# EAGLE library part 8L01 (library Eagle3D-Relays)
COTO Technologies - 8L Series Reed Relays
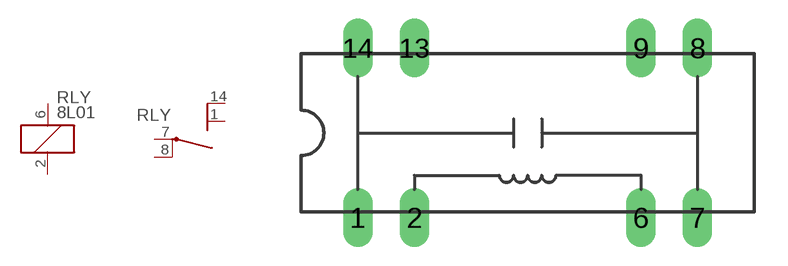
[diagram p0: symbol with the pads of 8L01; footprint 8L01]

Designator prefix RLY; gates G$1=COIL G$2=SP-3

## 8L01-05-0X1  [8L01]
1  G$2:NO  pas
2  G$1:C1  pas
6  G$1:C2  pas
7  G$2:IN  pas
8  G$2:IN_  pas
14  G$2:NO_  pas

## 8L01-12-0X1  [8L01]
Pads as for 8L01

## 8L01-24-0X1  [8L01]
Pads as for 8L01

## Footprint 8L01 (pad centres in mm)
drill 0.813 long: 1 -7.62,-3.81; 2 -5.08,-3.81; 6 5.08,-3.81; 7 7.62,-3.81; 8 7.62,3.81; 9 5.08,3.81; 13 -5.08,3.81; 14 -7.62,3.81